# EAGLE library part MB85RC1MTPNF-G-JNERE1 (library MB85RC1MTPNF-G-JNERE1)
Manufacturer: Kaga FEI America Memory Format: FRAM Memory Size: 1Mbit Memory Organization: 128K x 8 Clock Frequency: 3.4 MHz Package: 8-SOIC (0.154", 3.90mm Width) Link: https://www.digikey.com/en/products/detail/kaga-fei-america-inc/MB85RC1MTPNF-G-JNERE1/5456434?s=N4IgTCBcDaILYCMAcBWATgYwIxwC4AcA7AMwFoBzUgK0IFM1asQBdAXyA
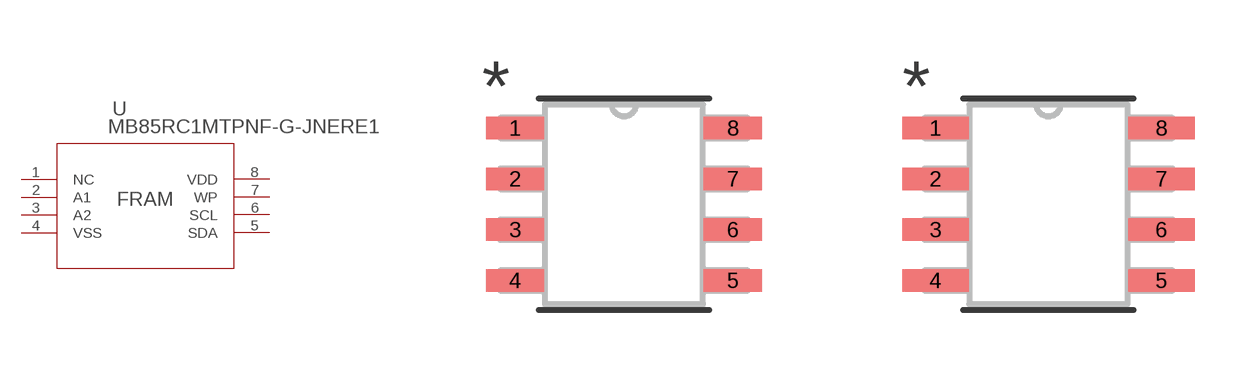
[diagram p0: symbol with the pads of SOIC8_SA_SST_MCH; footprints SOIC8_SA_SST_MCH, SOIC8_SA_SST_MCH-M]

Designator prefix U

## MB85RC1MTPNF-G-JNERE1 (COPYRIGHT: Copyright (C) 2022 Ultra Librarian. All rights reserved.; DIGI-KEY_PART_NUMBER_1: SST25VF010A-33-4I-SAE-TCT-ND; DIGI-KEY_PART_NUMBER_2: SST25VF010A-33-4I-SAE-TDKR-ND; DIGI-KEY_PART_NUMBER_3: SST25VF010A-33-4I-SAE-TTR-ND; MANUFACTURER_PART_NUMBER: SST25VF010A-33-4I-SAE-T; MFR_NAME: Microchip)  [SOIC8_SA_SST_MCH]
1  NC  in
2  A1  out
3  A2  in
4  VSS  pwr
5  SDA  in
6  SCL  in
7  WP  in
8  VDD  pwr

## MB85RC1MTPNF-G-JNERE1SOIC8_SA_SST_MCH-M (COPYRIGHT: Copyright (C) 2022 Ultra Librarian. All rights reserved.; DIGI-KEY_PART_NUMBER_1: SST25VF010A-33-4I-SAE-TCT-ND; DIGI-KEY_PART_NUMBER_2: SST25VF010A-33-4I-SAE-TDKR-ND; DIGI-KEY_PART_NUMBER_3: SST25VF010A-33-4I-SAE-TTR-ND; MANUFACTURER_PART_NUMBER: SST25VF010A-33-4I-SAE-T; MFR_NAME: Microchip)  [SOIC8_SA_SST_MCH-M]
Pads as for SOIC8_SA_SST_MCH

## MB85RC1MTPNF-G-JNERE1SOIC8_SA_SST_MCH-L (COPYRIGHT: Copyright (C) 2022 Ultra Librarian. All rights reserved.; DIGI-KEY_PART_NUMBER_1: SST25VF010A-33-4I-SAE-TCT-ND; DIGI-KEY_PART_NUMBER_2: SST25VF010A-33-4I-SAE-TDKR-ND; DIGI-KEY_PART_NUMBER_3: SST25VF010A-33-4I-SAE-TTR-ND; MANUFACTURER_PART_NUMBER: SST25VF010A-33-4I-SAE-T; MFR_NAME: Microchip)  [SOIC8_SA_SST_MCH-L]
Pads as for SOIC8_SA_SST_MCH

## Footprint SOIC8_SA_SST_MCH (pad centres in mm)
smd 1.46 x 0.559: 1 -2.724,1.905; 2 -2.724,0.635; 3 -2.724,-0.635; 4 -2.724,-1.905; 5 2.724,-1.905; 6 2.724,-0.635; 7 2.724,0.635; 8 2.724,1.905

## Footprint SOIC8_SA_SST_MCH-M (pad centres in mm)
smd 1.664 x 0.559: 1 -2.826,1.905; 2 -2.826,0.635; 3 -2.826,-0.635; 4 -2.826,-1.905; 5 2.826,-1.905; 6 2.826,-0.635; 7 2.826,0.635; 8 2.826,1.905

## Footprint SOIC8_SA_SST_MCH-L (pad centres in mm)
smd 1.257 x 0.508: 1 -2.623,1.905; 2 -2.623,0.635; 3 -2.623,-0.635; 4 -2.623,-1.905; 5 2.623,-1.905; 6 2.623,-0.635; 7 2.623,0.635; 8 2.623,1.905